# Altium footprint library Soic 16 pos.PcbLib: 1 footprints
Each footprint in its own frame and in the unit in brackets; x right, y up, seen from the top. Pads: shape width x height; smd on the part's side, far side on the other; paste and mask are expansions set on the pad; w line width, h text height; cw(c..) or ccw(c..) is an arc to the next point about the centre after c.
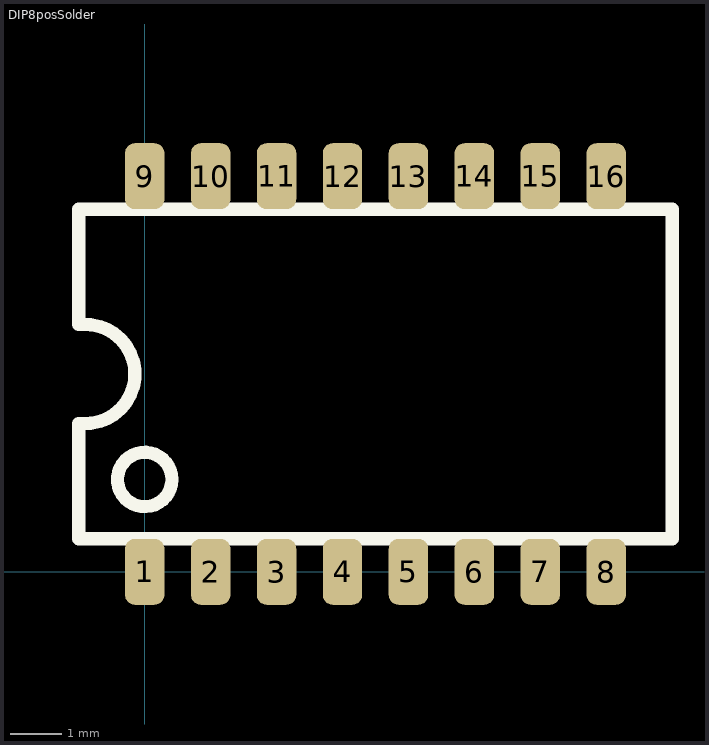
[diagram p0: the footprint, top view; thin cyan lines are the x and y axes]

## DIP8posSolder [mm]
pads (16):
  rrect50% 0.76x1.27 smd paste+0.254: 1(0,0) 2(1.27,0) 3(2.54,0) 4(3.81,0) 5(5.08,0) 6(6.35,0) 7(7.62,0) 8(8.89,0) 9(0,7.62) 10(1.27,7.62) 11(2.54,7.62) 12(3.81,7.62) 13(5.08,7.62) 14(6.35,7.62) 15(7.62,7.62) 16(8.89,7.62)
Top Overlay:
  circle w0.254: c0,1.778 r0.524
  lines w0.254: -1.27,2.857 -1.27,0.635 10.16,0.635 10.16,6.985 -1.27,6.985 -1.27,4.763 ; -1.206,2.858 ccw(c-1.143,3.81) -1.206,4.762